# Altium schematic symbol library EL817S1_C__TU_-F.SchLib: 1 symbol
Pins are listed as number, name and electrical type; pins without a type are passive.

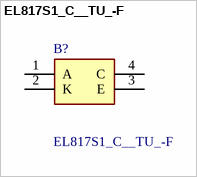
[diagram p0: symbol EL817S1_C__TU_-F]

## EL817S1_C__TU_-F
designator B?
DC-IN 1-CH Transistor DC-OUT 4-Pin PDIP SMD T/R; Manufacturer_Name: Everlight; Manufacturer_Part_Number: EL817S1(C)(TU)-F; Geometry.Height: 3.9mm; Mouser Part Number: 638-EL817S1CTU-F; Mouser Price/Stock: https://www.mouser.co.uk/ProductDetail/Everlight/EL817S1CTU-F?qs=By6Nw2ByBD13jSIKYv67HQ%3D%3D; Arrow Part Number: EL817S1(C)(TU)-F; Arrow Price/Stock: https://www.arrow.com/en/products/el817s1-c-tu-f/everlight-electronics?region=nac; Datasheet Link: https://datasheet.lcsc.com/szlcsc/Everlight-Elec-EL817S1-C-TU-F_C106900.pdf
footprint SOP254P1030X390-4N
pins: 1 A, 2 K, 3 E, 4 C